# Altium footprint library rgbleds.PcbLib: 5 footprints
Each footprint in its own frame and in the unit in brackets; x right, y up, seen from the top. Pads: shape width x height; smd on the part's side, far side on the other; paste and mask are expansions set on the pad; w line width, h text height; cw(c..) or ccw(c..) is an arc to the next point about the centre after c.
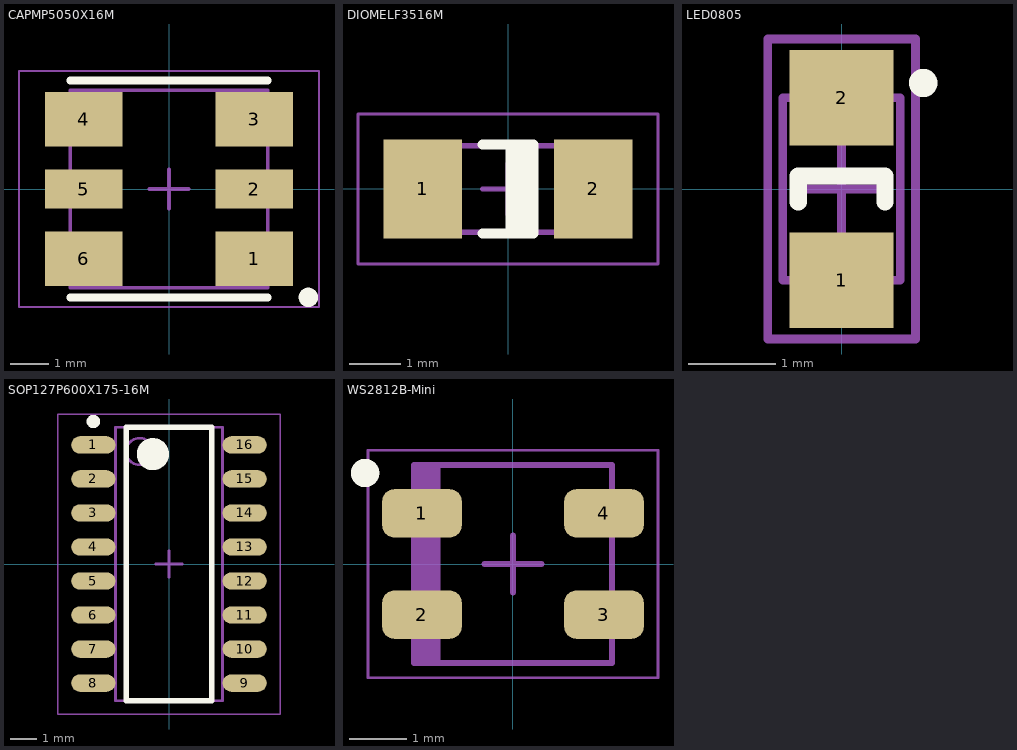
[diagram p0: the footprints below, top view; thin cyan lines are the x and y axes]

## CAPMP5050X16M [mm] "Molded Capacitor, 2-Leads, Body 5,05x5,05mm, IPC Low Density"
height 1.6
pads (6):
  rect 2x1.4 smd: 1(2.2,-1.8) 3(2.2,1.8) 4(-2.2,1.8) 6(-2.2,-1.8)
  rect 2x1 smd: 2(2.2,0) 5(-2.2,0)
Top Overlay:
  circle w0.25: c3.6,-2.8 r0.125
  lines w0.2: -2.55,-2.8 2.55,-2.8 ; -2.55,2.8 2.55,2.8
Mechanical 13:
  lines w0.1: -2.55,-2.55 2.55,-2.55 2.55,2.55 -2.55,2.55 -2.55,-2.55
Mechanical 15:
  lines w0.05: -3.875,-3.05 3.875,-3.05 3.875,3.05 -3.875,3.05 -3.875,-3.05
  lines w0.1: -0.5,0 0.5,0 ; 0,-0.5 0,0.5
3D body "7252440064.step": height 1.6, standoff 0, extent -2.77,-2.55 2.77,2.55

## DIOMELF3516M [mm] "MELF Diode, 2-Leads, Body 3,50x1,65mm, IPC Low Density"
height 1.7
pads (2):
  rect 1.55x1.95 smd: 1(-1.675,0) 2(1.675,0)
Top Overlay:
  rectangle: -0.05,-0.875 0.5,0.875
  lines w0.2: -0.5,-0.875 0.5,-0.875 0.5,0.875 -0.5,0.875
Mechanical 13:
  lines w0.1: -1.85,-0.85 -1.85,0.85 1.85,0.85 1.85,-0.85 -1.85,-0.85
Mechanical 15:
  lines w0.05: -2.95,-1.475 -2.95,1.475 2.95,1.475 2.95,-1.475 -2.95,-1.475
  lines w0.1: -0.5,0 0.5,0 ; 0,-0.5 0,0.5
3D body "DIOMELF3516M.step": height 1.65, standoff 0.01, extent -1.75,-0.823 1.75,0.823

## LED0805 [mm]
pads (2):
  rect 1.2x1.1 smd: 1(0,-1.05) 2(0,1.05)
Top Overlay:
  circle w0.254: c0.94,1.219 r0.036
  lines w0.2: -0.5,-0.15 -0.5,0.15 0.5,0.15 0.5,-0.15
Mechanical 13:
  lines w0.1: -0.675,-1.05 -0.675,1.05 0.675,1.05 0.675,-1.05 -0.675,-1.05
Mechanical 15:
  lines w0.1: -0.5,0 0.5,0 ; 0,-0.5 0,0.5 ; -0.85,-1.725 -0.85,1.725 0.85,1.725 0.85,-1.725 -0.85,-1.725
3D body "WL-SMCW_0805_LED.stp": height 0.8, standoff -0.02, extent -0.625,-1 0.625,1

## SOP127P600X175-16M [mm] "SOP, 16-Leads, Body 10,00x3,90mm, Pitch 1,27mm, IPC Low Density"
height 1.75
pads (16):
  oval 1.65x0.65 smd: 1(-2.825,4.445) 2(-2.825,3.175) 3(-2.825,1.905) 4(-2.825,0.635) 5(-2.825,-0.635) 6(-2.825,-1.905) 7(-2.825,-3.175) 8(-2.825,-4.445) 9(2.825,-4.445) 10(2.825,-3.175) 11(2.825,-1.905) 12(2.825,-0.635) 13(2.825,0.635) 14(2.825,1.905) 15(2.825,3.175) 16(2.825,4.445)
Top Overlay:
  circle w0.6: c-0.6,4.1 r0.3
  circle w0.25: c-2.825,5.32 r0.125
  lines w0.2: -1.6,-5.1 1.6,-5.1 1.6,5.1 -1.6,5.1 -1.6,-5.1
Mechanical 13:
  circle w0.1: c-1.1,4.2 r0.5
  lines w0.1: -2,-5.1 2,-5.1 2,5.1 -2,5.1 -2,-5.1
Mechanical 15:
  lines w0.05: -4.15,-5.6 4.15,-5.6 4.15,5.6 -4.15,5.6 -4.15,-5.6
  lines w0.1: -0.5,0 0.5,0 ; 0,-0.5 0,0.5
3D body "SOP127P600X175-16M.step": height 1.75, standoff 0, extent -3,-5.1 3,5.1

## WS2812B-Mini [mm]
height 1.95
pads (4):
  rrect50% 1.4x0.85 smd: 1(-1.6,0.89) 2(-1.6,-0.89) 3(1.6,-0.89) 4(1.6,0.89)
Top Overlay:
  circle w0.25: c-2.6,1.6 r0.125
Mechanical 13:
  rectangle: -1.74,-1.74 -1.272,1.74
  lines w0.1: -1.74,-1.74 1.74,-1.74 1.74,1.74 -1.74,1.74 -1.74,-1.74
Mechanical 15:
  lines w0.05: -2.55,-2 2.55,-2 2.55,2 -2.55,2 -2.55,-2
  lines w0.1: -0.5,0 0.5,0 ; 0,-0.5 0,0.5
3D body "ws2812b-Mini v2.step": height 1.95, standoff 0, extent -1.96,-1.74 1.96,1.74